# Altium footprint library CDRH2D14NP-2R2NC.PCBLIB: 1 footprints
Each footprint in its own frame and in the unit in brackets; x right, y up, seen from the top. Pads: shape width x height; smd on the part's side, far side on the other; paste and mask are expansions set on the pad; w line width, h text height; cw(c..) or ccw(c..) is an arc to the next point about the centre after c.
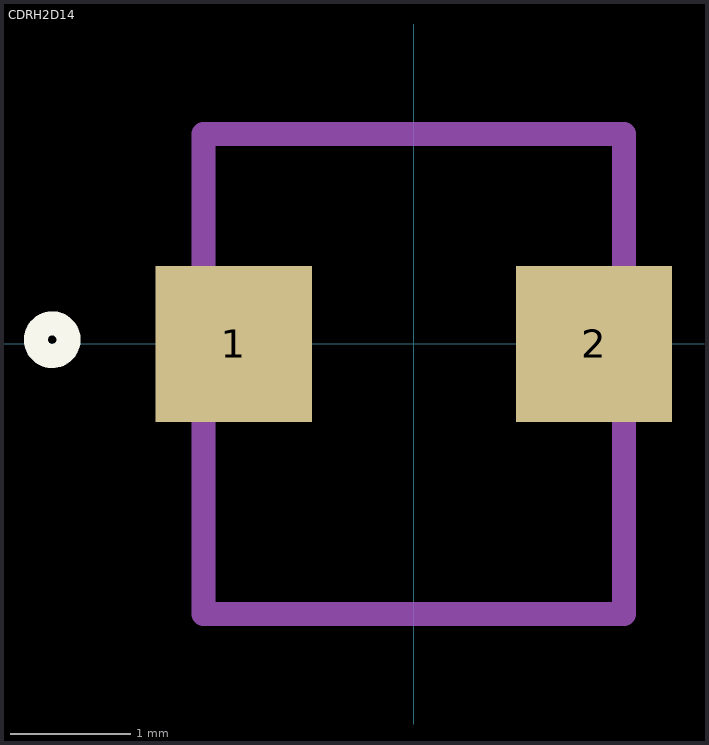
[diagram p0: the footprint, top view; thin cyan lines are the x and y axes]

## CDRH2D14 [mm]
pads (2):
  rect 1.3x1.3 smd: 1(-1.5,0) 2(1.5,0)
Top Overlay:
  circle w0.2: c-3.012,0.036 r0.136
tDocu:
  lines w0.2: -1.75,-2.25 1.75,-2.25 1.75,1.75 -1.75,1.75 -1.75,-2.25
tPlace:
  lines w0.2: -1.75,-0.891 -1.75,-2.25 1.75,-2.25 1.75,-0.904 ; -1.75,0.9 -1.75,1.75 1.75,1.75 1.75,0.875